# Altium footprint library FSBB20CH60F.PcbLib: 1 footprints
Each footprint in its own frame and in the unit in brackets; x right, y up, seen from the top. Pads: shape width x height; smd on the part's side, far side on the other; paste and mask are expansions set on the pad; w line width, h text height; cw(c..) or ccw(c..) is an arc to the next point about the centre after c.
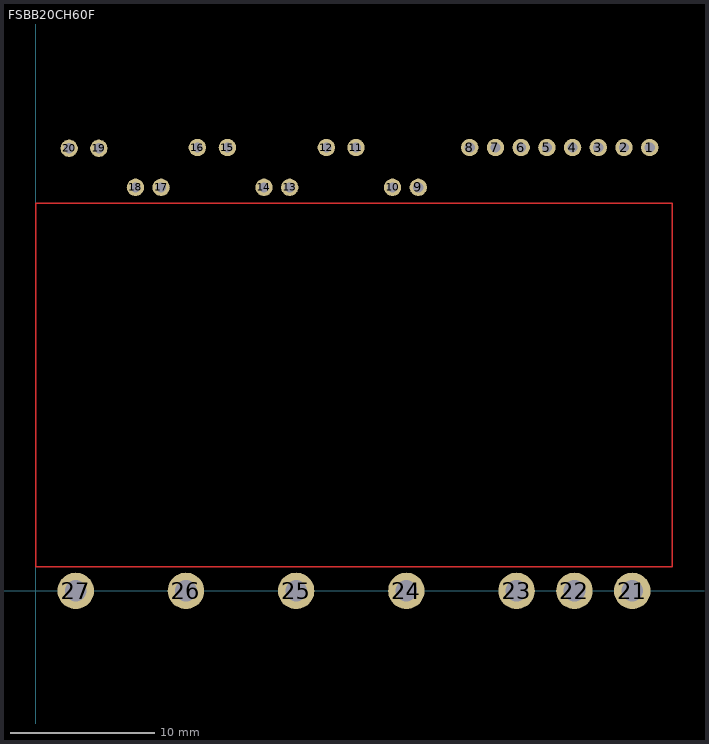
[diagram p0: the footprint, top view; thin cyan lines are the x and y axes]

## FSBB20CH60F [mm]
pads (27):
  round 1.2 hole 0.7: 1(42.447,30.65) 2(40.669,30.65) 3(38.891,30.65) 4(37.113,30.65) 5(35.335,30.65) 6(33.557,30.65) 7(31.779,30.65) 8(30,30.65) 9(26.445,27.9) 10(24.667,27.9) 11(22.136,30.65) 12(20.086,30.65) 13(17.555,27.9) 14(15.777,27.9) 15(13.246,30.65) 16(11.169,30.65) 17(8.665,27.9) 18(6.887,27.9) 19(4.356,30.6) 20(2.306,30.6)
  round 2.524 hole 1.5: 21(41.24,0) 22(37.24,0) 23(33.24,0) 24(25.62,0) 25(18,0) 26(10.38,0) 27(2.76,0)
Top Layer:
  lines w0.1: 0,1.65 44,1.65 ; 0,1.651 0,26.8 44,26.8 44,1.651